# EAGLE library part TLP291-4(TP,E) (library OPTOISOLATOR)
Optoisolator Transistor Output 2500Vrms 4 Channel 16-SO Manufacturer's datasheet <https://www.digikey.com/products/en?keywords=TLP291-4(TPE)CT-ND>
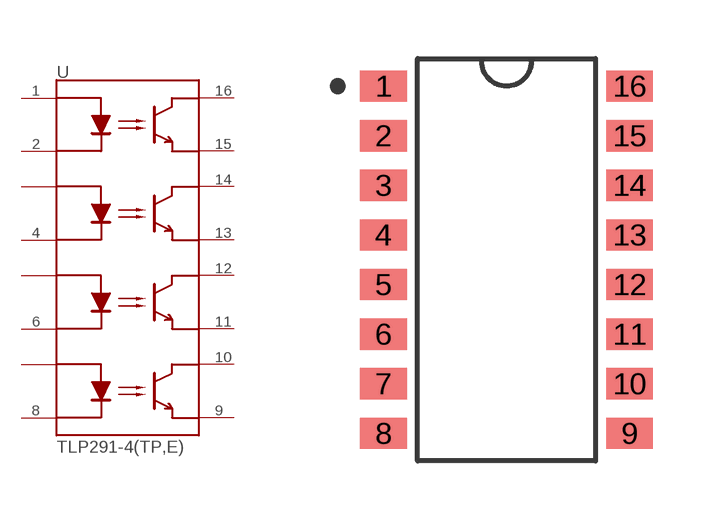
[diagram p2: symbol with the pads of TLP291-4(TP,E); footprint TLP291-4(TP,E)]

Designator prefix U

## TLP291-4(TP,E) (CREATED_BY: PCBLayout.com; DIGIKEY_PART_NUMBER: TLP291-4(TPE)CT-ND; MANUFACTURER: Toshiba Semiconductor and Storage; MPN: TLP291-4(TP,E); PACKAGE: 16-SO)  [TLP291-4(TP,E)]
1  ANODE_1  pas
2  CATHODE_2  pas
3  ANODE_3  pas
4  CATHODE_4  pas
5  ANODE_5  pas
6  CATHODE_6  pas
7  ANODE_7  pas
8  CATHODE_8  pas
9  EMITTER_9  pas
10  COLLECTOR_10  pas
11  EMITTER_11  pas
12  COLLECTOR_12  pas
13  EMITTER_13  pas
14  COLLECTOR_14  pas
15  EMITTER_15  pas
16  COLLECTOR_16  pas

## Footprint TLP291-4(TP,E) (pad centres in mm)
smd 1.2 x 0.8: 1 -3.15,4.445; 2 -3.15,3.175; 3 -3.15,1.905; 4 -3.15,0.635; 5 -3.15,-0.635; 6 -3.15,-1.905; 7 -3.15,-3.175; 8 -3.15,-4.445; 9 3.15,-4.445; 10 3.15,-3.175; 11 3.15,-1.905; 12 3.15,-0.635; 13 3.15,0.635; 14 3.15,1.905; 15 3.15,3.175; 16 3.15,4.445